# Altium footprint library transform.PcbLib: 43 footprints (part 2 of 3)
Each footprint in its own frame and in the unit in brackets; x right, y up, seen from the top. Pads: shape width x height; smd on the part's side, far side on the other; paste and mask are expansions set on the pad; w line width, h text height; cw(c..) or ccw(c..) is an arc to the next point about the centre after c.
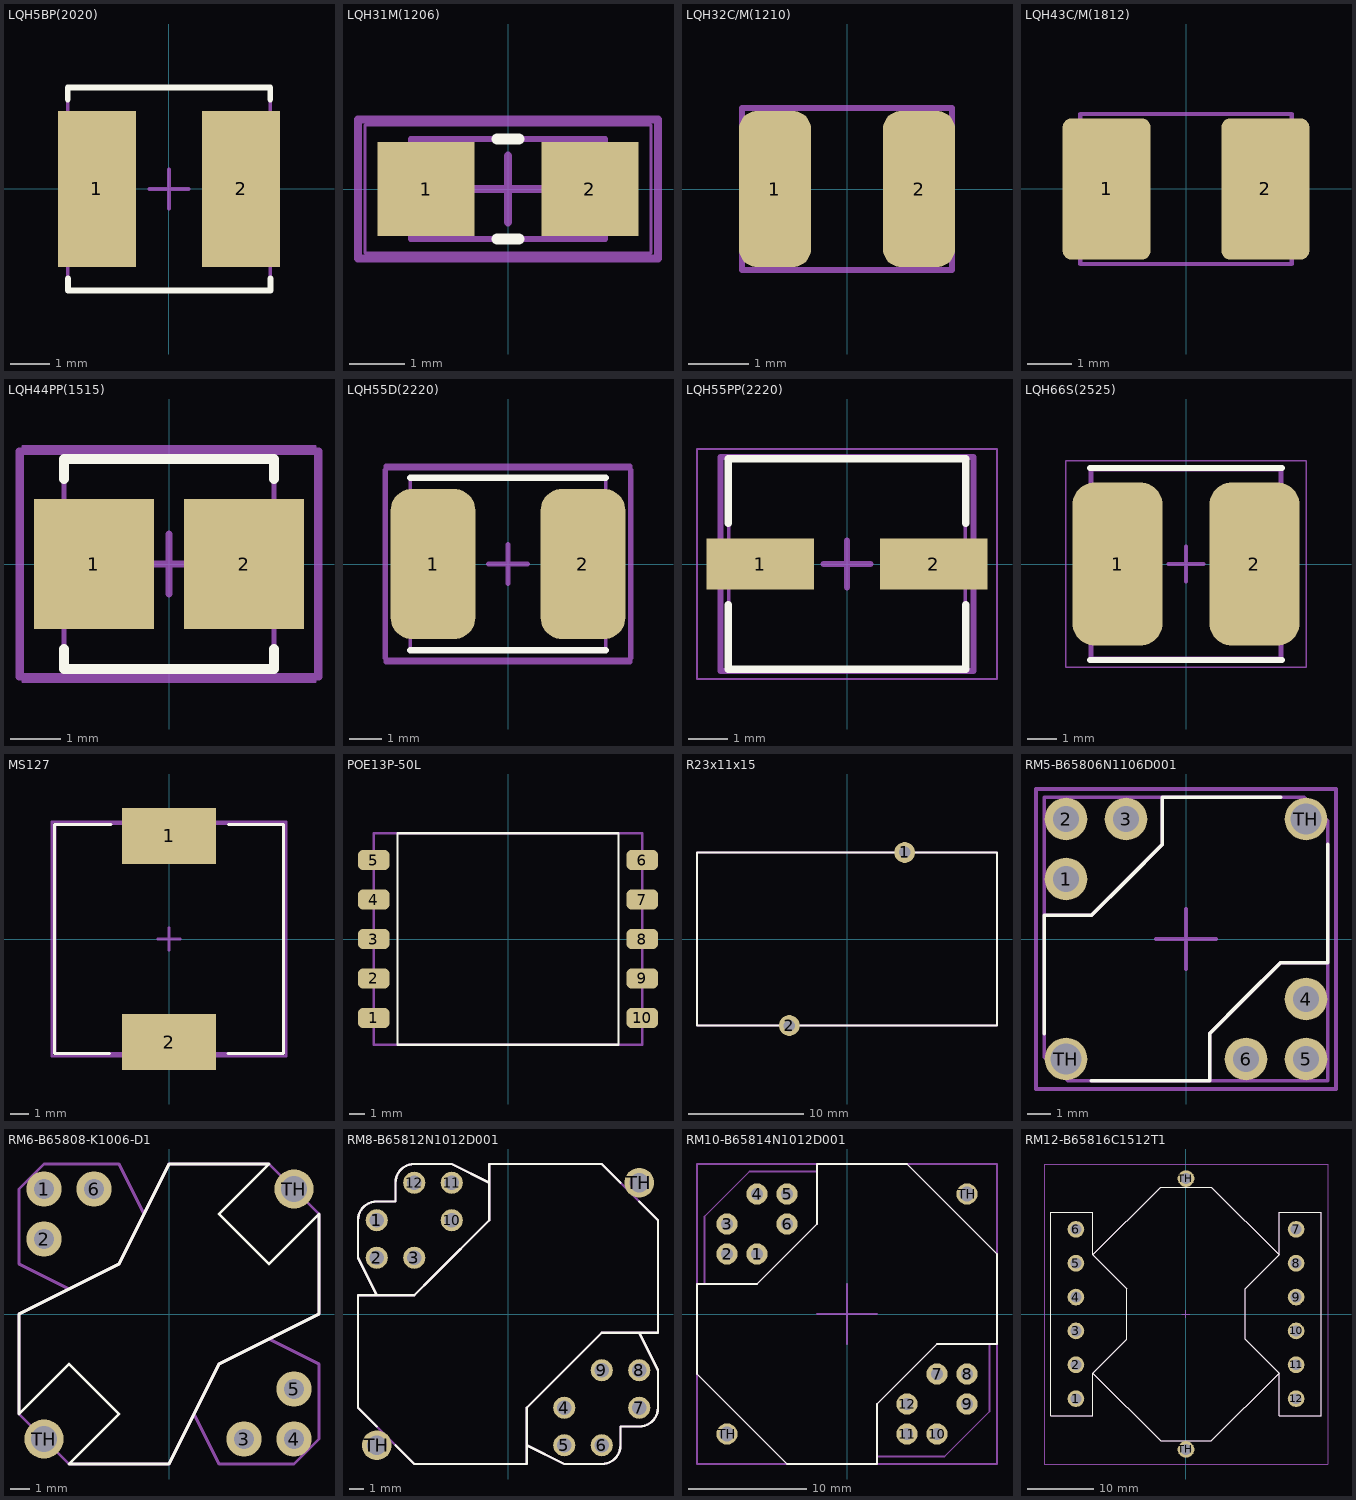
[diagram p1: the footprints below, top view; thin cyan lines are the x and y axes]

## LQH5BP(2020) [mm] "LQH5BP Series 2020 Case"
height 2.2
pads (2):
  rect 2x4 smd: 1(-1.85,0) 2(1.85,0)
Top Overlay:
  lines w0.15: -2.6,2.3 -2.6,2.6 2.6,2.6 2.6,2.3 ; -2.594,-2.302 -2.594,-2.602 2.606,-2.602 2.606,-2.302
Top Courtyard:
  lines w0.1: -2.6,-2.6 -2.6,2.6 2.6,2.6 2.6,-2.6 -2.6,-2.6
Top 3D Body:
  lines w0.1: -0.5,0 0.5,0 ; 0,-0.5 0,0.5
3D body: height 2.2, standoff 0, extent -2.6,-2.6 2.6,2.6

## LQH31M(1206) [mm] "LQH31M Series 1206 Case"
height 2
pads (2):
  rect 1.75x1.7 smd: 1(-1.475,0) 2(1.475,0)
Top Overlay:
  lines w0.2: -0.2,-0.9 0.2,-0.9 ; -0.2,0.9 0.2,0.9
Top Courtyard:
  lines w0.1: -1.75,-0.9 1.75,-0.9 1.75,0.9 -1.75,0.9 -1.75,-0.9
Top 3D Body:
  lines w0.05: -2.575,-1.15 2.575,-1.15 2.575,1.15 -2.575,1.15 -2.575,-1.15
  lines w0.1: -0.5,0 0.5,0 ; 0,-0.5 0,0.5
Mechanical 15:
  lines w0.15: -0.6,0 0,0 ; 0,-0.6 0,0 ; 0,0.6 0,0 ; 0.6,0 0,0 ; -2.7,-1.25 -2.7,1.25 2.7,1.25 2.7,-1.25 -2.7,-1.25
3D body: height 2, standoff 0, extent -1.75,-0.9 1.75,0.9

## LQH32C/M(1210) [mm] "LQH32C/M Series 1210 Case"
height 2.2
pads (2):
  rrect50% 1.2x2.6 smd: 1(-1.2,0) 2(1.2,0)
Top Courtyard:
  lines w0.1: -1.75,-1.35 1.75,-1.35 1.75,1.35 -1.75,1.35 -1.75,-1.35
3D body "User Library-LQH32PN_sw.STEP": height 1.55, standoff 0, extent -1.6,-1.25 1.6,1.25

## LQH43C/M(1812) [mm] "LQH43C/M Series 1812 Case"
height 2.8
pads (2):
  rrect20% 2x3.2 smd: 1(-1.8,0) 2(1.8,0)
Top Courtyard:
  lines w0.1: -2.4,-1.7 -2.4,1.7 2.4,1.7 2.4,-1.7 -2.4,-1.7
3D body: height 1.8, standoff 0.8, extent -1.6,-1.4 1.6,1.4
3D body: height 2.6, standoff 1.8, extent -1.8,-1.6 1.8,1.6
3D body: height 0.8, standoff 0, extent -2.3,-1.6 2.3,1.6

## LQH44PP(1515) [mm] "LQH44PP Series 1515 Case"
height 1.7
pads (2):
  rect 2.4x2.6 smd: 1(-1.5,0) 2(1.5,0)
Top Overlay:
  lines w0.2: -2.1,-1.7 -2.1,-2.1 2.1,-2.1 2.1,-1.7 ; -2.1,1.7 -2.1,2.1 2.1,2.1 2.1,1.7
Top Courtyard:
  lines w0.1: -2.1,-2.1 2.1,-2.1 2.1,2.1 -2.1,2.1 -2.1,-2.1
Top 3D Body:
  lines w0.05: -2.925,-2.35 2.925,-2.35 2.925,2.35 -2.925,2.35 -2.925,-2.35
  lines w0.1: -0.5,0 0.5,0 ; 0,-0.5 0,0.5
Mechanical 15:
  lines w0.15: -0.6,0 0,0 ; 0,-0.6 0,0 ; 0,0.6 0,0 ; 0.6,0 0,0 ; -3,-2.25 3,-2.25 3,2.25 -3,2.25 -3,-2.25
3D body: height 1.7, standoff 0, extent -2.1,-2.1 2.1,2.1

## LQH55D(2220) [mm] "LQH55D Series 2220"
height 5
pads (2):
  rrect50% 2.6x4.6 smd: 1(-2.3,0) 2(2.3,0)
Top Overlay:
  lines w0.2: -3,-2.65 3,-2.65 ; -3,2.65 3,2.65
Top Courtyard:
  lines w0.1: -3,-2.65 3,-2.65 3,2.65 -3,2.65 -3,-2.65
Top 3D Body:
  lines w0.05: -3.825,-2.9 3.825,-2.9 3.825,2.9 -3.825,2.9 -3.825,-2.9
  lines w0.1: -0.5,0 0.5,0 ; 0,-0.5 0,0.5
Mechanical 15:
  lines w0.15: -0.6,0 0,0 ; 0,-0.6 0,0 ; 0,0.6 0,0 ; 0.6,0 0,0 ; -3.75,-3 -3.75,3 3.75,3 3.75,-3 -3.75,-3
3D body: height 5, standoff 0, extent -3,-2.65 3,2.65

## LQH55PP(2220) [mm] "LQH55PP Series 2220 Case"
height 2
pads (2):
  rect 2.75x1.3 smd: 1(-2.225,0) 2(2.225,0)
Top Overlay:
  lines w0.2: -3.05,-1.05 -3.05,-2.7 3.05,-2.7 3.05,-1.05 ; -3.05,1.05 -3.05,2.7 3.05,2.7 3.05,1.05
Top Courtyard:
  lines w0.1: -3.035,-2.7 3.035,-2.7 3.035,2.7 -3.035,2.7 -3.035,-2.7
Top 3D Body:
  lines w0.05: -3.85,-2.95 3.85,-2.95 3.85,2.95 -3.85,2.95 -3.85,-2.95
  lines w0.1: -0.5,0 0.5,0 ; 0,-0.5 0,0.5
Mechanical 15:
  lines w0.15: -0.6,0 0,0 ; 0,-0.6 0,0 ; 0,0.6 0,0 ; 0.6,0 0,0 ; -3.25,-2.75 3.25,-2.75 3.25,2.75 -3.25,2.75 -3.25,-2.75
3D body: height 2, standoff 0, extent -3.035,-2.7 3.035,2.7

## LQH66S(2525) [mm] "LQH66S Series 2525 Case"
height 5
pads (2):
  rrect50% 3.1x5.6 smd: 1(-2.35,0) 2(2.35,0)
Top Overlay:
  lines w0.2: -3.3,-3.3 3.3,-3.3 ; -3.3,3.3 3.3,3.3
Top Courtyard:
  lines w0.1: -3.3,-3.3 -3.3,3.3 3.3,3.3 3.3,-3.3 -3.3,-3.3
Top 3D Body:
  lines w0.05: -4.125,-3.55 -4.125,3.55 4.125,3.55 4.125,-3.55 -4.125,-3.55
  lines w0.1: -0.5,0 0.5,0 ; 0,-0.5 0,0.5
Mechanical 15:
  lines w0.15: -0.6,0 0,0 ; 0,-0.6 0,0 ; 0,0.6 0,0 ; 0.6,0 0,0 ; -3.25,-3.25 -3.25,3.25 3.25,3.25 3.25,-3.25 -3.25,-3.25
3D body: height 5, standoff 0, extent -3.3,-3.3 3.3,3.3

## MS127 [mm]
height 7
pads (2):
  rect 5x3 smd: 1(0,5.5) 2(0,-5.5)
Top Overlay:
  lines w0.15: -3.175,-6.1 -6.1,-6.1 -6.1,6.1 -3.1,6.1 ; 3.15,-6.1 6.1,-6.1 6.1,6.1 3.175,6.1
Mechanical 15:
  lines w0.15: -0.6,0 0,0 ; 0,-0.6 0,0 ; 0,0.6 0,0 ; 0.6,0 0,0 ; -6.25,-6.25 6.25,-6.25 6.25,6.25 -6.25,6.25 -6.25,-6.25
Mechanical 29:
  lines w0.15: -6.075,-6.1 6.1,-6.1 6.1,6.15 -6.075,6.15 -6.075,-6.1
3D body "User Library-Inductor SRR1280 Series.STEP": height 7.51, standoff 0, extent -6.1,-6.2 6.1,6

## POE13P-50L [mm]
height 12.7
pads (10):
  rrect50% 2x1.27 smd: 1(-8.5,-5) 2(-8.5,-2.5) 3(-8.5,0) 4(-8.5,2.5) 5(-8.5,5) 6(8.5,5) 7(8.5,2.5) 8(8.5,0) 9(8.5,-2.5) 10(8.5,-5)
Top Overlay:
  lines w0.15: -7,-6.7 -7,6.7 7,6.7 7,-6.7 -7,-6.7
Top Courtyard:
  lines w0.15: -8.5,-6.7 8.5,-6.7 8.5,6.7 -8.5,6.7 -8.5,-6.7
3D body "Coilcraft-POE13P-50L.STEP": height 12.75, standoff 0.05, extent -8.5,-6.73 8.5,6.73

## R23x11x15 [mm]
height 26
pads (2):
  round 1.8 hole 1 unplated: 1(5,7.5) 2(-5,-7.5)
Top Overlay:
  lines w0.15: -13,-7.5 -13,7.5 13,7.5 13,-7.5 -13,-7.5
Mechanical 29:
  lines w0.15: -13,-7.5 13,-7.5 13,7.5 -13,7.5 -13,-7.5

## RM5-B65806N1106D001 [mm]
height 12
pads (8):
  round 1.8 hole 1.1: 1(-5.08,2.54) 2(-5.08,5.08) 3(-2.54,5.08) 4(5.08,-2.54) 5(5.08,-5.08) 6(2.54,-5.08)
  round 1.8 hole 1.3: TH(-5.08,-5.08) TH(5.08,5.08)
Top Overlay:
  lines w0.15: -6,-4 -6,1 -4,1 -2.5,2.5 -1,4 -1,6 4,6 ; -4,-6 1,-6 1,-4 2.5,-2.5 4,-1 6,-1 6,4
Mechanical 15:
  lines w0.15: -1.27,0 1.27,0 ; 0,-1.27 0,1.27 ; -6.35,-6.35 -6.35,6.35 6.35,6.35 6.35,-6.35 -6.35,-6.35
Mechanical 29:
  lines w0.15: -6,1 -6,6 -1,6 ; -6,1 -6,-5 -5,-6 1,-6 ; -6,1 -4,1 -1,4 -1,6 ; -1,6 5,6 6,5 6,-1 ; 1,-6 6,-6 6,-1 ; 1,-6 1,-4 4,-1 6,-1
3D body: height 2, standoff 1.5, extent -6,-6 6,6
3D body: height 12, standoff 0.5, extent -6,-6 6,6
3D body: height 3, standoff -3, extent 2.04,-5.58 3.04,-4.58
3D body: height 3, standoff -3, extent 4.58,-5.58 5.58,-4.58
3D body: height 3, standoff -3, extent 4.58,-3.04 5.58,-2.04
3D body: height 3, standoff -3, extent -3.04,4.58 -2.04,5.58
3D body: height 3, standoff -3, extent -5.58,2.04 -4.58,3.04
3D body: height 3, standoff -3, extent -5.58,4.58 -4.58,5.58

## RM6-B65808-K1006-D1 [mm]
height 15
pads (8):
  round 1.8 hole 1: 1(-6.35,6.35) 2(-6.35,3.81) 3(3.81,-6.35) 4(6.35,-6.35) 5(6.35,-3.81) 6(-3.81,6.35)
  round 2 hole 1.3: TH(-6.35,-6.35) TH(6.35,6.35)
Top Overlay:
  lines w0.15: -7.62,-5.08 -7.62,0 -2.54,2.54 0,7.62 5.08,7.62 2.54,5.08 5.08,2.54 7.62,5.08 7.62,0 2.54,-2.54 0,-7.62 -5.08,-7.62 -2.54,-5.08 -5.08,-2.54 -7.62,-5.08
Mechanical 29:
  lines w0.15: -5.08,1.27 -7.62,2.54 -7.62,6.35 -6.35,7.62 -2.54,7.62 -1.27,5.08 ; 1.27,-5.08 2.54,-7.62 3.81,-7.62 6.35,-7.62 7.62,-6.35 7.62,-2.54 5.08,-1.27 ; -7.62,-5.08 -7.62,0 -2.54,2.54 0,7.62 5.08,7.62 7.62,5.08 7.62,0 2.54,-2.54 0,-7.62 -5.08,-7.62 -7.62,-5.08
3D body "RM6.STEP": height 12.6, standoff -4.67, extent -7.843,-7.843 7.843,7.843

## RM8-B65812N1012D001 [mm]
height 17
pads (14):
  round 1.5 hole 1: 1(-8.89,6.35) 2(-8.89,3.81) 3(-6.35,3.81) 4(3.81,-6.35) 5(3.81,-8.89) 6(6.35,-8.89) 7(8.89,-6.35) 8(8.89,-3.81) 9(6.35,-3.81) 10(-3.81,6.35) 11(-3.81,8.89) 12(-6.35,8.89)
  round 2 hole 1.3: TH(-8.89,-8.89) TH(8.89,8.89)
Top Overlay:
  lines w0.15: -8.89,-7.62 -10.16,-6.35 -10.16,1.27 -6.35,1.27 -5.08,2.54 -1.27,6.35 -1.27,10.16 6.35,10.16 7.62,8.89 ; -8.89,1.27 -10.16,3.81 -10.16,6.35 cw(c-8.89,6.35) -8.89,7.62 -7.62,7.62 -7.62,8.89 cw(c-6.35,8.89) -6.35,10.16 -3.81,10.16 -1.27,8.89 ; -7.62,-8.89 -6.35,-10.16 1.27,-10.16 1.27,-6.35 6.35,-1.27 10.16,-1.27 10.16,5.08 10.16,6.35 8.89,7.62 ; 1.27,-8.89 3.81,-10.16 6.35,-10.16 ccw(c6.35,-8.89) 7.62,-8.89 7.62,-7.62 8.89,-7.62 ccw(c8.89,-6.35) 10.16,-6.35 10.16,-3.81 8.89,-1.27
Mechanical 29:
  lines w0.15: -8.89,1.27 -10.16,3.81 -10.16,6.35 cw(c-8.89,6.35) -8.89,7.62 -7.62,7.62 -7.62,8.89 cw(c-6.35,8.89) -6.35,10.16 -3.81,10.16 -1.27,8.89 ; 1.27,-8.89 3.81,-10.16 6.35,-10.16 ccw(c6.35,-8.89) 7.62,-8.89 7.62,-7.62 8.89,-7.62 ccw(c8.89,-6.35) 10.16,-6.35 10.16,-3.81 8.89,-1.27 ; -10.16,-6.35 -7.62,-8.89 -6.35,-10.16 1.27,-10.16 1.27,-6.35 6.35,-1.27 10.16,-1.27 10.16,5.08 10.16,6.35 7.62,8.89 6.35,10.16 -1.27,10.16 -1.27,6.35 -5.08,2.54 -6.35,1.27 -10.16,1.27 -10.16,-6.35
3D body "RM8.STEP": height 16.75, standoff -3.07, extent -10.51,-10.51 10.512,10.51

## RM10-B65814N1012D001 [mm]
pads (14):
  round 1.8 hole 1: 1(-7.62,5.08) 2(-10.16,5.08) 3(-10.16,7.62) 4(-7.62,10.16) 5(-5.08,10.16) 6(-5.08,7.62) 7(7.62,-5.08) 8(10.16,-5.08) 9(10.16,-7.62) 10(7.62,-10.16) 11(5.08,-10.16) 12(5.08,-7.62)
  round 1.8 hole 1.3: TH(-10.16,-10.16) TH(10.16,10.16)
Top Overlay:
  lines w0.15: -12.7,-5.08 -12.7,2.54 -7.62,2.54 -2.54,7.62 -2.54,12.7 5.08,12.7 12.7,5.08 12.7,-2.54 7.62,-2.54 2.54,-7.62 2.54,-12.7 -5.08,-12.7 -12.7,-5.08
Mechanical 15:
  lines w0.15: -2.54,0 2.54,0 ; 0,-2.54 0,2.54 ; -12.7,-12.7 12.7,-12.7 12.7,12.7 -12.7,12.7 -12.7,-12.7
Mechanical 29:
  lines w0.15: -12.065,2.54 -12.065,8.255 -8.255,12.065 -2.54,12.065 ; 2.54,-12.065 8.255,-12.065 12.065,-8.255 12.065,-2.54 ; -12.7,-5.08 -12.7,2.54 -7.62,2.54 -2.54,7.62 -2.54,12.7 5.08,12.7 12.7,5.08 12.7,-2.54 7.62,-2.54 2.54,-7.62 2.54,-12.7 -5.08,-12.7 -12.7,-5.08
3D body: height 2, standoff 1.5, extent -9.08,5.08 -3.175,12.065
3D body: height 2, standoff 1.5, extent 3.175,-12.065 9.079,-5.08
3D body: height 2, standoff 1.5, extent 5.08,-9.08 12.065,-3.175
3D body: height 19, standoff 0.5, extent -12.7,-12.7 12.7,12.7
3D body: height 4, standoff -3, extent -10.46,4.78 -9.86,5.38
3D body: height 4, standoff -3, extent -10.46,7.32 -9.86,7.92
3D body: height 4, standoff -3, extent -7.92,9.86 -7.32,10.46
3D body: height 4, standoff -3, extent -5.38,9.86 -4.78,10.46
3D body: height 4, standoff -3, extent -5.38,7.32 -4.78,7.92
3D body: height 4, standoff -3, extent -7.92,4.78 -7.32,5.38
3D body: height 4, standoff -3, extent 7.32,-5.38 7.92,-4.78
3D body: height 4, standoff -3, extent 9.86,-5.38 10.46,-4.78
3D body: height 4, standoff -3, extent 9.86,-7.92 10.46,-7.32
3D body: height 4, standoff -3, extent 7.32,-10.46 7.92,-9.86
3D body: height 4, standoff -3, extent 4.78,-10.46 5.38,-9.86
3D body: height 4, standoff -3, extent 4.78,-7.92 5.38,-7.32
3D body: height 2, standoff 1.5, extent -12.065,3.175 -5.08,9.079

## RM12-B65816C1512T1 [mm]
pads (14):
  round 2.5 hole 1.6: 1(-16.51,-12.7) 2(-16.51,-7.62) 3(-16.51,-2.54) 4(-16.51,2.54) 5(-16.51,7.62) 6(-16.51,12.7) 7(16.51,12.7) 8(16.51,7.62) 9(16.51,2.54) 10(16.51,-2.54) 11(16.51,-7.62) 12(16.51,-12.7) TH(0,-20.32) TH(0,20.32)
Top Overlay:
  lines w0.15: -13.97,-8.89 -3.81,-19.05 0,-19.05 3.81,-19.05 13.97,-8.89 ; -13.97,-8.89 -8.89,-3.81 -8.89,0 -8.89,3.81 -13.97,8.89 ; -13.97,-8.89 -13.97,-15.24 -16.51,-15.24 -20.32,-15.24 -20.32,0 -20.32,15.24 -16.51,15.24 -13.97,15.24 -13.97,8.89 ; -13.97,8.89 -3.81,19.05 0,19.05 3.81,19.05 13.97,8.89 ; 13.97,-8.89 8.89,-3.81 8.89,0 8.89,3.81 13.97,8.89 ; 13.97,-8.89 13.97,-12.7 13.97,-15.24 20.32,-15.24 20.32,0 20.32,15.24 16.51,15.24 13.97,15.24 13.97,8.89
Mechanical 15:
  lines w0.15: -0.6,0 0,0 ; 0,-0.6 0,0 ; 0,0.6 0,0 ; 0.6,0 0,0 ; -21.25,-22.5 -21.25,22.5 21.25,22.5 21.25,-22.5 -21.25,-22.5
Mechanical 29:
  lines w0.15: -13.97,-8.89 -3.81,-19.05 0,-19.05 3.81,-19.05 13.97,-8.89 ; -13.97,-8.89 -13.97,-15.24 -16.51,-15.24 -20.32,-15.24 -20.32,0 -20.32,15.24 -16.51,15.24 -13.97,15.24 -13.97,8.89 ; -13.97,-8.89 -8.89,-3.81 -8.89,0 -8.89,3.81 -13.97,8.89 ; -13.97,8.89 -3.81,19.05 0,19.05 3.81,19.05 13.97,8.89 ; 13.97,-8.89 8.89,-3.81 8.89,0 8.89,3.81 13.97,8.89 ; 13.97,-8.89 13.97,-12.7 13.97,-15.24 20.32,-15.24 20.32,0 20.32,15.24 16.51,15.24 13.97,15.24 13.97,8.89
3D body: height 0.2, standoff -4.8, extent -17.01,-13.2 -16.01,-12.2
3D body: height 0.2, standoff -4.8, extent -17.01,-8.12 -16.01,-7.12
3D body: height 0.2, standoff -4.8, extent -17.01,-3.04 -16.01,-2.04
3D body: height 0.2, standoff -4.8, extent -17.01,2.04 -16.01,3.04
3D body: height 0.2, standoff -4.8, extent -17.01,7.12 -16.01,8.12
3D body: height 0.2, standoff -4.8, extent -17.01,12.2 -16.01,13.2
3D body: height 0.2, standoff -4.8, extent 16.01,-13.2 17.01,-12.2
3D body: height 0.2, standoff -4.8, extent 16.01,-8.12 17.01,-7.12
3D body: height 0.2, standoff -4.8, extent 16.01,-3.04 17.01,-2.04
3D body: height 0.2, standoff -4.8, extent 16.01,2.04 17.01,3.04
3D body: height 0.2, standoff -4.8, extent 16.01,7.12 17.01,8.12
3D body: height 0.2, standoff -4.8, extent 16.01,12.2 17.01,13.2
3D body: height 25.5, standoff 0, extent -3.81,-20.32 3.81,-17.78
3D body: height 25.5, standoff 0, extent -3.81,17.78 3.81,20.32
3D body: height 5, standoff 0.5, extent -17.78,-15.24 17.78,15.24
3D body: height 25, standoff 0.5, extent -13.97,-19.05 13.97,19.05
3D body: height 22, standoff 3, extent -13,-13 13,13
3D body: height 2.5, standoff 1.5, extent -20.32,-13.2 -15.32,-12.2
3D body: height 2.5, standoff 1.5, extent -20.32,-8.12 -15.32,-7.12
3D body: height 2.5, standoff 1.5, extent -20.32,-3.04 -15.32,-2.04
3D body: height 2.5, standoff 1.5, extent -20.32,2.04 -15.32,3.04
3D body: height 2.5, standoff 1.5, extent -20.32,7.12 -15.32,8.12
3D body: height 2.5, standoff 1.5, extent -20.32,12.2 -15.32,13.2
3D body: height 2.5, standoff 1.5, extent 15.32,12.2 20.32,13.2
3D body: height 2.5, standoff 1.5, extent 15.32,7.12 20.32,8.12
3D body: height 2.5, standoff 1.5, extent 15.32,2.04 20.32,3.04
3D body: height 2.5, standoff 1.5, extent 15.32,-3.04 20.32,-2.04
3D body: height 2.5, standoff 1.5, extent 15.32,-8.12 20.32,-7.12
3D body: height 2.5, standoff 1.5, extent 15.32,-13.2 20.32,-12.2